# Altium schematic symbol library 电磁放大器模块.SCHLIB: 11 symbols
Pins are listed as number, name and electrical type; pins without a type are passive.

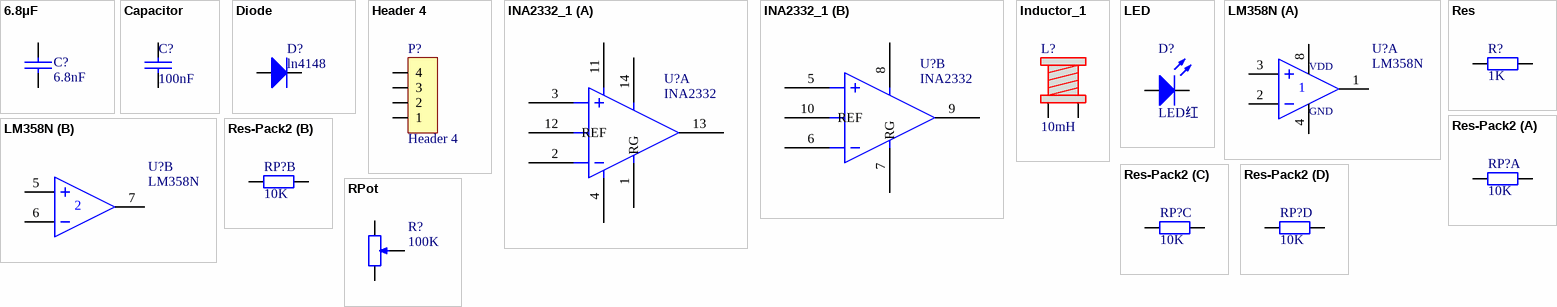
[diagram p0: symbols 6.8μF to RPot]

## 6.8μF
designator C?, comment 6.8nF
Capacitor
footprint 0603C
pins: 1, 2

## Capacitor
designator C?, comment 100nF
Capacitor
footprint 0603C
pins: 1, 2

## Diode
designator D?, comment ln4148
Typical INFRARED GaAs doide
footprint SOD-523(0603)
pins: 1, 2

## Header 4
designator P?
Header, 4-Pin
footprint XH2.54_4P
pins: 1, 2, 3, 4

## INA2332_1
designator U?, comment INA2332
footprint TSSOP14
part A pins: 1 RG, 2, 3, 4, 11, 12 REF, 13, 14 SHDN
part B pins: 5, 6, 7 RG, 8 SHDN, 9, 10 REF

## Inductor_1
designator L?, comment 10mH
footprint 6X8mm电感
pins: 1, 2

## LED
designator D?, comment LED红
Typical INFRARED GaAs LED
footprint 0603LED_红
pins: 1, 2

## LM358N
designator U?
Dual Low-Power Operational Amplifier
part A pins: 1 OUT, 2 IN-, 3 IN+, 4 GND, 8 VDD
part B pins: 5 IN+, 6 IN-, 7 OUT

## Res
designator R?, comment 1K
Resistor
footprint 0603R
pins: 1, 2

## Res-Pack2
designator RP?, comment 10K
footprint RN8-0603
part A pins: 1, 8
part B pins: 2, 7
part C pins: 3, 6
part D pins: 4, 5

## RPot
designator R?, comment 100K
Potentiometer
footprint 3362P
pins: 1 TOP, 2 TAP, 3 BOT
1 alternate drawing of the same symbol